# EAGLE library part LDCFILT1 (library divers)
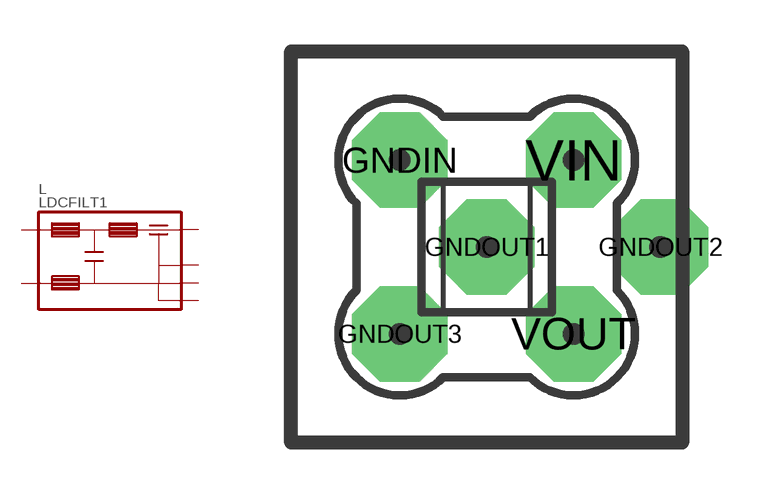
[diagram p6: symbol with the pads of LDCFILT1; footprint LDCFILT1]

Designator prefix L

## LDCFILT1  [LDCFILT1]
GNDIN  GNDIN
GNDOUT1  GNDOUT
GNDOUT2  GNDOUT
GNDOUT3  GNDOUT
VIN  VIN
VOUT  VOUT

## Footprint LDCFILT1 (pad centres in mm)
drill 1.295 pad 2.794 octagon: GNDIN -2.54,2.54; GNDOUT1 0,0; GNDOUT2 5.08,0; GNDOUT3 -2.54,-2.54; VIN 2.54,2.54; VOUT 2.54,-2.54